# Altium footprint library PcbLib1.PcbLib: 2 footprints
Each footprint in its own frame and in the unit in brackets; x right, y up, seen from the top. Pads: shape width x height; smd on the part's side, far side on the other; paste and mask are expansions set on the pad; w line width, h text height; cw(c..) or ccw(c..) is an arc to the next point about the centre after c.
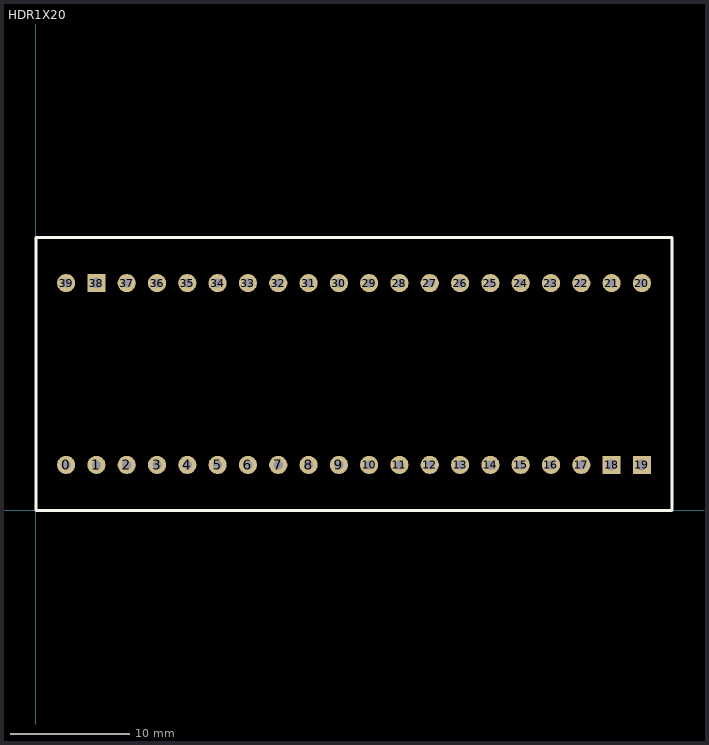
[diagram p0: the footprints below, top view; thin cyan lines are the x and y axes]

## HDR1X20 [mil] "Connector; Header; 20 Position"
height 170.08
pads (40):
  round 60 hole 30: 0(100,150) 1(200,150) 2(300,150) 3(400,150) 4(500,150) 5(600,150) 6(700,150) 7(800,150) 8(900,150) 9(1000,150) 10(1100,150) 11(1200,150) 12(1300,150) 13(1400,150) 14(1500,150) 15(1600,150) 16(1700,150) 17(1800,150) 20(2000,750) 21(1900,750) 22(1800,750) 23(1700,750) 24(1600,750) 25(1500,750) 26(1400,750) 27(1300,750) 28(1200,750) 29(1100,750) 30(1000,750) 31(900,750) 32(800,750) 33(700,750) 34(600,750) 35(500,750) 36(400,750) 37(300,750) 39(100,750)
  rect 59.06x59.06 hole 35.43: 18(1900,150) 19(2000,150) 38(200,750)
Top Overlay:
  lines w10: 0,0 2100,0 2100,900 0,900 0,0

## PCBComponent_1 [mil]